# Altium schematic symbol library ANALOG_SWITCH(1.65-5.5V,1-Mux, 900mOhm, SOT23-6).SchLib: 1 symbol
Pins are listed as number, name and electrical type; pins without a type are passive.

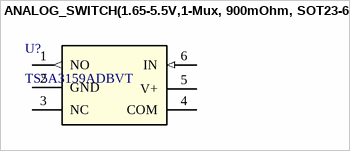
[diagram p0: symbol ANALOG_SWITCH(1.65-5.5V,1-Mux, 900mOhm, SOT23-6)]

## ANALOG_SWITCH(1.65-5.5V,1-Mux, 900mOhm, SOT23-6)
designator U?, comment TS5A3159ADBVT
1-â„¦, 5-V, 2:1 (SPDT), 1-channel general-purpose analog switch with powered-off protection 6-SOT-23 -40 to 85; Manufacturer: Texas Instruments; Manufacturer_PN: TS5A3159ADBVT; Package: SOT23-6; Datasheet: https://www.ti.com/lit/ds/symlink/ts5a3159a.pdf?HQS=dis-dk-null-digikeymode-dsf-pf-null-wwe&ts=1765099236363&ref_url=https%253A%252F%252Fwww.ti.com%252Fgeneral%252Fdocs%252Fsuppproductinfo.tsp%253FdistId%253D10%2526gotoUrl%253Dhttps%253A%252F%252Fwww.ti.com%252Flit%252Fgpn%252Fts5a3159a; Digikey_Link: https://www.digikey.it/en/products/detail/texas-instruments/TS5A3159ADBVT/1909751
footprint DBV6
pins: 1 NO (out), 2 GND (power), 3 NC, 4 COM, 5 V+ (power), 6 IN (in)